# EAGLE library part PRPC040DAAN-RC (library Header)
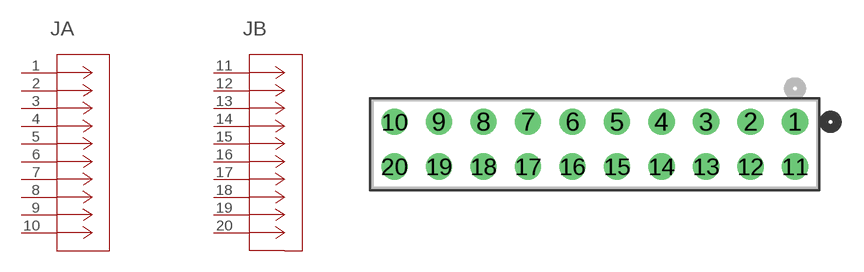
[diagram p0: symbol with the pads of CONN80_PRP-040_4000X197_SUL; footprint CONN80_PRP-040_4000X197_SUL]

Designator prefix J; gates A=CONN80_PRP-040_4000X197 B=CONN80_PRP-040_4000X197_4

## PRPC040DAAN-RCCONN80_PRP-040_4000X197_SUL (COPYRIGHT: Copyright (C) 2023 Ultra Librarian. All rights reserved.; MANUFACTURER_PART_NUMBER: PRPC040DAAN-RC; MFR_NAME: Sullins; TYPE: Headers, Male Pins)  [CONN80_PRP-040_4000X197_SUL]
1  A:1  pas
2  A:2  pas
3  A:3  pas
4  A:4  pas
5  A:5  pas
6  A:6  pas
7  A:7  pas
8  A:8  pas
9  A:9  pas
10  A:10  pas
11  B:41  pas
12  B:42  pas
13  B:43  pas
14  B:44  pas
15  B:45  pas
16  B:46  pas
17  B:47  pas
18  B:48  pas
19  B:49  pas
20  B:50  pas

## Footprint CONN80_PRP-040_4000X197_SUL (pad centres in mm)
drill 0.991 pad 1.499: 1 0,0; 2 -2.54,0; 3 -5.08,0; 4 -7.62,0; 5 -10.16,0; 6 -12.7,0; 7 -15.24,0; 8 -17.78,0; 9 -20.32,0; 10 -22.86,0; 11 0,-2.54; 12 -2.54,-2.54; 13 -5.08,-2.54; 14 -7.62,-2.54; 15 -10.16,-2.54; 16 -12.7,-2.54; 17 -15.24,-2.54; 18 -17.78,-2.54; 19 -20.32,-2.54; 20 -22.86,-2.54